# EAGLE library part TEST3 (library maholli)
edit this description Auto generated by make-symbol-device-package-bsdl.ulp Rev. 44 Source:
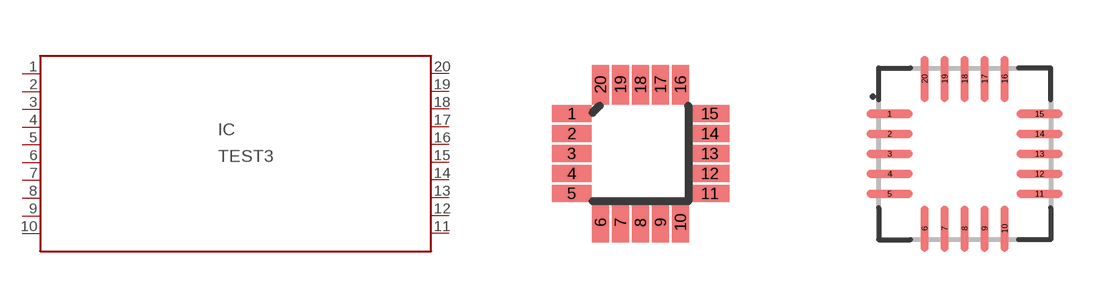
[diagram p14: symbol with the pads of TEST3; footprints TEST3, QFN50P430X430X100-20]

Designator prefix IC

## TEST3  [TEST3]
1
2
3
4
5
6
7
8
9
10
11
12
13
14
15
16
17
18
19
20

## TEST3S-PQFN  [QFN50P430X430X100-20]

## Footprint TEST3 (pad centres in mm)
TEST3 Auto generated by make-symbol-device-package-bsdl.ulp Rev. 44
smd 0.99 x 0.42: 1 -1.725,1; 2 -1.725,0.5; 3 -1.725,0; 4 -1.725,-0.5; 5 -1.725,-1; 11 1.725,-1; 12 1.725,-0.5; 13 1.725,0; 14 1.725,0.5; 15 1.725,1
smd 0.42 x 0.99: 6 -1,-1.725; 7 -0.5,-1.725; 8 0,-1.725; 9 0.5,-1.725; 10 1,-1.725; 16 1,1.725; 17 0.5,1.725; 18 0,1.725; 19 -0.5,1.725; 20 -1,1.725

## Footprint QFN50P430X430X100-20 (pad centres in mm)
20-QFN, 0.5 mm pitch, 4.3 X 4.3 X 1 mm body 20-pin QFN package with 0.5 mm pitch with body size 4.3 X 4.3 X 1 mm
smd 1.15 x 0.2: 1 -1.875,1; 2 -1.875,0.5; 3 -1.875,0; 4 -1.875,-0.5; 5 -1.875,-1; 11 1.875,-1; 12 1.875,-0.5; 13 1.875,0; 14 1.875,0.5; 15 1.875,1
smd 0.2 x 1.15: 6 -1,-1.875; 7 -0.5,-1.875; 8 0,-1.875; 9 0.5,-1.875; 10 1,-1.875; 16 1,1.875; 17 0.5,1.875; 18 0,1.875; 19 -0.5,1.875; 20 -1,1.875